# Altium footprint library PCB - DIODES - SOD-123W.PCBLIB: 1 footprints
Each footprint in its own frame and in the unit in brackets; x right, y up, seen from the top. Pads: shape width x height; smd on the part's side, far side on the other; paste and mask are expansions set on the pad; w line width, h text height; cw(c..) or ccw(c..) is an arc to the next point about the centre after c.
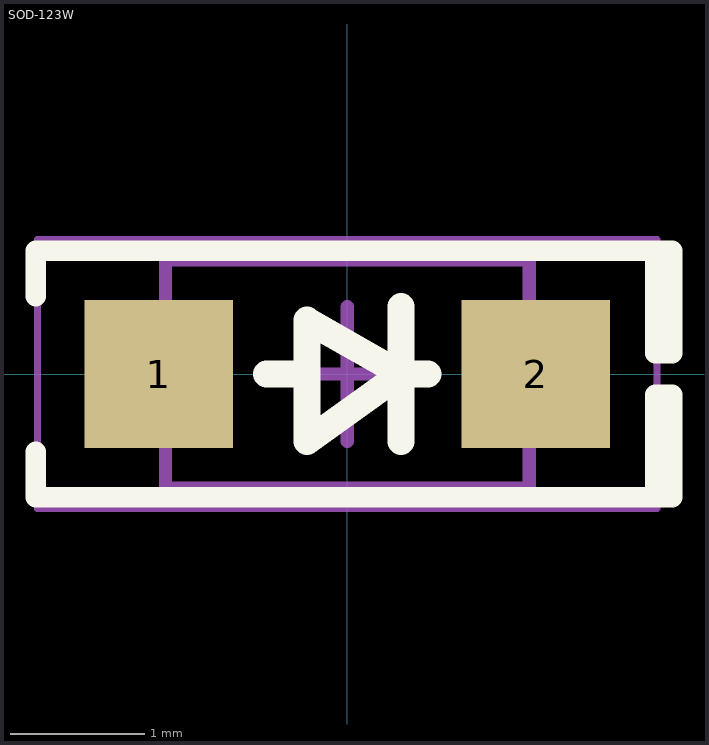
[diagram p0: the footprint, top view; thin cyan lines are the x and y axes]

## SOD-123W [mm] "SODFL, 2-Leads, Body 1.60x3.50mm, IPC Medium Density"
height 1
pads (2):
  rect 1.1x1.1 smd: 1(-1.4,0) 2(1.4,0)
Top Overlay:
  lines w0.15: -2.313,-0.575 -2.313,-0.916 2.286,-0.916 ; -2.313,0.575 -2.313,0.916 2.286,0.916 ; 2.286,-0.916 2.413,-0.916 2.413,-0.154 2.286,-0.154 2.286,-0.916 ; 2.286,0.916 2.286,0.154 2.413,0.154 2.413,0.916 2.286,0.916
  lines w0.2: -0.6,0 -0.3,0 ; 0.4,-0.5 0.4,0.5 ; 0.6,0 0.4,0 ; 0.4,0 -0.3,0.4 -0.3,-0.5 0.4,0
Mechanical 13:
  lines w0.1: -1.35,-0.85 1.35,-0.85 1.35,0.85 -1.35,0.85 -1.35,-0.85
Mechanical 15:
  lines w0.05: -2.3,-1 2.3,-1 2.3,1 -2.3,1 -2.3,-1
2:
  lines w0.1: -0.5,0 0.5,0 ; 0,-0.5 0,0.5
3D body "Nexperia - SOD-123W.step": height 0.95, standoff -0.15, extent -1.75,-0.87 1.75,0.87